# EAGLE library part 62674-301121ALF (library 30pin_ffc_connector)
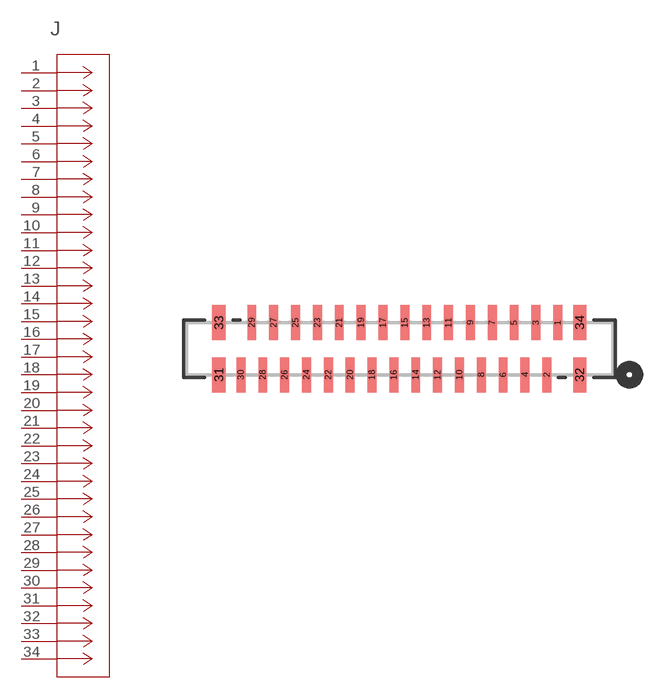
[diagram p0: symbol with the pads of CON30_1X30_DUT_58XF; footprint CON30_1X30_DUT_58XF]

Designator prefix J

## 62674-301121ALF (MANUFACTURER_PART_NUMBER: 62674301121ALF; VENDOR: FCI)  [CON30_1X30_DUT_58XF]
1  11  pas
2  22  pas
3  33  pas
4  44  pas
5  55  pas
6  66  pas
7  77  pas
8  88  pas
9  99  pas
10  1010  pas
11  1111  pas
12  1212  pas
13  1313  pas
14  1414  pas
15  1515  pas
16  1616  pas
17  1717  pas
18  1818  pas
19  1919  pas
20  2020  pas
21  2121  pas
22  2222  pas
23  2323  pas
24  2424  pas
25  2525  pas
26  2626  pas
27  2727  pas
28  2828  pas
29  2929  pas
30  3030  pas
31  3131  pas
32  3232  pas
33  3333  pas
34  3434  pas

## Footprint CON30_1X30_DUT_58XF (pad centres in mm)
smd 0.406 x 1.6: 1 7.62,0.965; 2 7.12,-1.422; 3 6.62,0.965; 4 6.12,-1.422; 5 5.62,0.965; 6 5.12,-1.422; 7 4.62,0.965; 8 4.12,-1.422; 9 3.62,0.965; 10 3.12,-1.422; 11 2.62,0.965; 12 2.12,-1.422; 13 1.62,0.965; 14 1.12,-1.422; 15 0.62,0.965; 16 0.12,-1.422; 17 -0.38,0.965; 18 -0.88,-1.422; 19 -1.38,0.965; 20 -1.88,-1.422; 21 -2.38,0.965; 22 -2.88,-1.422; 23 -3.38,0.965; 24 -3.88,-1.422; 25 -4.38,0.965; 26 -4.88,-1.422; 27 -5.38,0.965; 28 -5.88,-1.422; 29 -6.38,0.965; 30 -6.88,-1.422
smd 0.61 x 1.6: 31 -7.885,-1.422; 32 8.625,-1.422; 33 -7.885,0.965; 34 8.625,0.965